# Altium schematic symbol library YAOJI.SchLib: 7 symbols
Pins are listed as number, name and electrical type; pins without a type are passive.

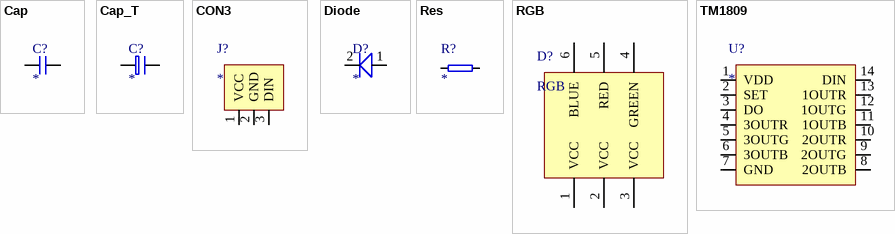
[diagram p0: symbols Cap to TM1809]

## Cap
designator C?
footprint 0603
pins: 1, 2

## Cap_T
designator C?
footprint 0603
pins: 1, 2

## CON3
designator J?
footprint CON3
pins: 1 VCC, 2 GND, 3 DIN

## Diode
designator D?
footprint SMAJ
pins: 1, 2 1

## Res
designator R?
footprint 0603
pins: 1, 2

## RGB
designator D?
footprint 5050RGB
pins: 1 VCC, 2 VCC, 3 VCC, 4 GREEN, 5 RED, 6 BLUE

## TM1809
designator U?
footprint SO-14
pins: 1 VDD, 2 SET, 3 DO, 4 3OUTR, 5 3OUTG, 6 3OUTB, 7 GND, 8 2OUTB, 9 2OUTG, 10 2OUTR, 11 1OUTB, 12 1OUTG, 13 1OUTR, 14 DIN